# Altium footprint library NDK, NX3215SA.PcbLib: 1 footprints
Each footprint in its own frame and in the unit in brackets; x right, y up, seen from the top. Pads: shape width x height; smd on the part's side, far side on the other; paste and mask are expansions set on the pad; w line width, h text height; cw(c..) or ccw(c..) is an arc to the next point about the centre after c.
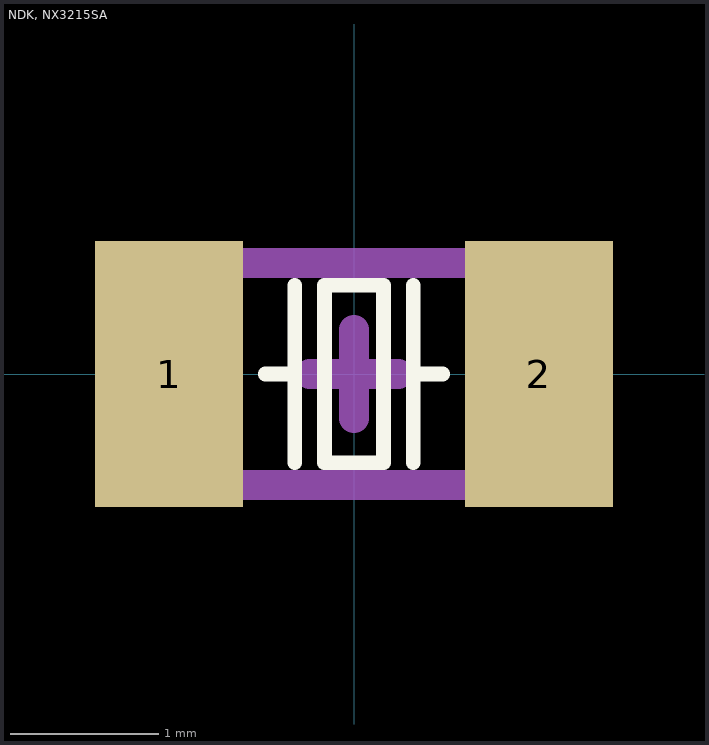
[diagram p0: the footprint, top view; thin cyan lines are the x and y axes]

## NDK, NX3215SA [mm] "NDK, NX3215SA"
height 0.8
pads (2):
  rect 1x1.8 smd mask+0.05: 1(-1.25,0) 2(1.25,0)
Top Overlay:
  lines w0.1: -0.6,0 -0.4,0 ; -0.4,-0.6 -0.4,0.6 ; 0.4,-0.6 0.4,0.6 ; 0.4,0 0.6,0 ; -0.2,-0.6 0.2,-0.6 0.2,0.6 -0.2,0.6 -0.2,-0.6
Top Assembly:
  lines w0.2: -1.6,-0.75 -1.6,0.75 1.6,0.75 1.6,-0.75 -1.6,-0.75
Top Designator:
  text ".Designator" at -2.5,-2.318 h1.5
Top Component Center:
  lines w0.2: -0.3,0 0.3,0 ; 0,-0.3 0,0.3
3D body "NDK, NX3215SA.step": height 0.89, standoff 0, extent -1.651,-0.8 1.651,0.8